# EAGLE library part MC33064D-5G (library on-semiconductor-01)
Undervoltage Sensing Circuit
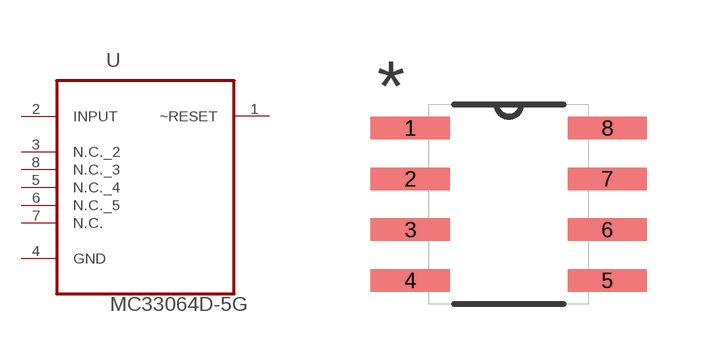
[diagram p326: symbol with the pads of SOIC127P600X175-8N; footprint SOIC127P600X175-8N]

Designator prefix U

## MC33064D-5G (MPN: MC33064D-5G; OC_FARNELL: 1211114; OC_NEWARK: 26K3992; PACKAGE: SOIC-8; SUPPLIER: ON SEMICONDUCTOR)  [SOIC127P600X175-8N]
1  ~RESET  out
2  INPUT  in
3  N.C._2  nc
4  GND  pas
5  N.C._4  nc
6  N.C._5  nc
7  N.C.  nc
8  N.C._3  nc

## Footprint SOIC127P600X175-8N (pad centres in mm)
smd 1.981 x 0.559: 1 -2.464,1.905; 2 -2.464,0.635; 3 -2.464,-0.635; 4 -2.464,-1.905; 5 2.464,-1.905; 6 2.464,-0.635; 7 2.464,0.635; 8 2.464,1.905